# Altium integrated library 2336582-1.IntLib: 1 symbol
Pins are listed as number, name and electrical type; pins without a type are passive.

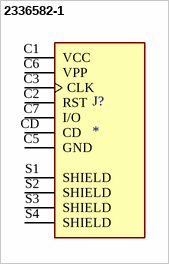
[diagram p0: symbol 2336582-1]

## 2336582-1
designator J?
PUSH-PUSH NANO SIM CONNECTOR; MF: TE Connectivity; MP: 2336582-1; SnapEDA_Link: https://www.snapeda.com/parts/2336582-1/TE+Connectivity/view-part/?ref=snap; Package: None; Value: *; Check_prices: https://www.snapeda.com/parts/2336582-1/TE+Connectivity/view-part/?ref=eda
footprint TE_2336582-1
pins: C1 VCC, C2 RST, C3 CLK, C5 GND, C6 VPP, C7 I/O, CD, S1 SHIELD, S2 SHIELD, S3 SHIELD, S4 SHIELD